# Altium schematic symbol library 691 330 300 0xx.SchLib: 6 symbols
Pins are listed as number, name and electrical type; pins without a type are passive.

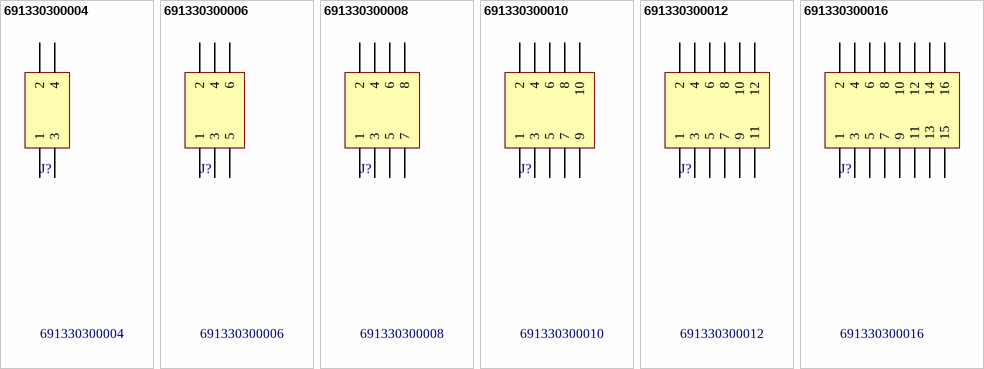
[diagram p0: symbols 691330300004 to 691330300016]

## 691330300004
designator J?
WR-TBL Terminal block - serie 3303 - 3.81 mm; Manufacturer: Würth Elektronik eiSos GmbH; ComponentLink1 Description: Manufacturer; ComponentLink2 Description: Datasheet; NoPins: 4; Created Date: 23 December 2013; partNo: 691330300004; ComponentLink1URL: http://www.we-online.com; ComponentLink2URL: http://katalog.we-online.de/em/datasheet/6913303000xx.pdf; Created by: Karrer Zheng
footprint 691330300004 (3,81mm - PCB - Dual row - Vertical - Flanges - 04p)
pins: 1, 2, 3, 4

## 691330300006
designator J?
WR-TBL Terminal block - serie 3303 - 3.81 mm; Manufacturer: Würth Elektronik eiSos GmbH; ComponentLink1 Description: Manufacturer; ComponentLink2 Description: Datasheet; NoPins: 6; Created Date: 23 December 2013; partNo: 691330300006; ComponentLink1URL: http://www.we-online.com; ComponentLink2URL: http://katalog.we-online.de/em/datasheet/6913303000xx.pdf; Created by: Karrer Zheng
footprint 691330300006 (3,81mm - PCB - Dual row - Vertical - Flanges - 06p)
pins: 1, 2, 3, 4, 5, 6

## 691330300008
designator J?
WR-TBL Terminal block - serie 3303 - 3.81 mm; Manufacturer: Würth Elektronik eiSos GmbH; ComponentLink1 Description: Manufacturer; ComponentLink2 Description: Datasheet; NoPins: 8; Created Date: 23 December 2013; partNo: 691330300008; ComponentLink1URL: http://www.we-online.com; ComponentLink2URL: http://katalog.we-online.de/em/datasheet/6913303000xx.pdf; Created by: Karrer Zheng
footprint 691330300008 (3,81mm - PCB - Dual row - Vertical - Flanges - 08p)
pins: 1, 2, 3, 4, 5, 6, 7, 8

## 691330300010
designator J?
WR-TBL Terminal block - serie 3303 - 3.81 mm; Manufacturer: Würth Elektronik eiSos GmbH; ComponentLink1 Description: Manufacturer; ComponentLink2 Description: Datasheet; NoPins: 10; Created Date: 23 December 2013; partNo: 691330300010; ComponentLink1URL: http://www.we-online.com; ComponentLink2URL: http://katalog.we-online.de/em/datasheet/6913303000xx.pdf; Created by: Karrer Zheng
footprint 691330300010 (3,81mm - PCB - Dual row - Vertical - Flanges - 10p)
pins: 1, 2, 3, 4, 5, 6, 7, 8, 9, 10

## 691330300012
designator J?
WR-TBL Terminal block - serie 3303 - 3.81 mm; Manufacturer: Würth Elektronik eiSos GmbH; ComponentLink1 Description: Manufacturer; ComponentLink2 Description: Datasheet; NoPins: 12; Created Date: 23 December 2013; partNo: 691330300012; ComponentLink1URL: http://www.we-online.com; ComponentLink2URL: http://katalog.we-online.de/em/datasheet/6913303000xx.pdf; Created by: Karrer Zheng
footprint 691330300012 (3,81mm - PCB - Dual row - Vertical - Flanges - 12p)
pins: 1, 2, 3, 4, 5, 6, 7, 8, 9, 10, 11, 12

## 691330300016
designator J?
WR-TBL Terminal block - serie 3303 - 3.81 mm; Manufacturer: Würth Elektronik eiSos GmbH; ComponentLink1 Description: Manufacturer; ComponentLink2 Description: Datasheet; NoPins: 16; Created Date: 23 December 2013; partNo: 691330300016; ComponentLink1URL: http://www.we-online.com; ComponentLink2URL: http://katalog.we-online.de/em/datasheet/6913303000xx.pdf; Created by: Karrer Zheng
footprint 691330300016 (3,81mm - PCB - Dual row - Vertical - Flanges - 16p)
pins: 1, 2, 3, 4, 5, 6, 7, 8, 9, 10, 11, 12, 13, 14, 15, 16